# Altium footprint library CONV_RACM60-12SK_OF_PCB-T.PcbLib: 1 footprints
Each footprint in its own frame and in the unit in brackets; x right, y up, seen from the top. Pads: shape width x height; smd on the part's side, far side on the other; paste and mask are expansions set on the pad; w line width, h text height; cw(c..) or ccw(c..) is an arc to the next point about the centre after c.
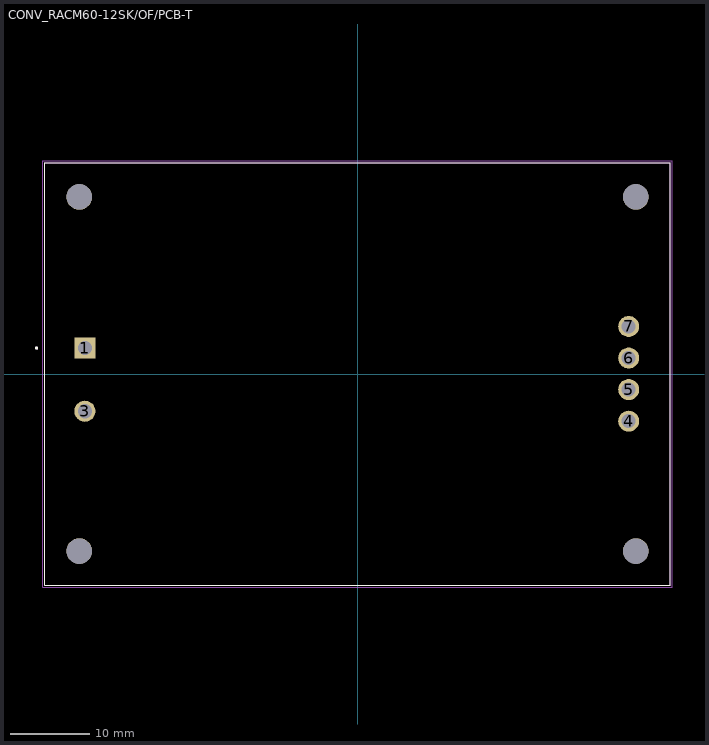
[diagram p0: the footprint, top view; thin cyan lines are the x and y axes]

## CONV_RACM60-12SK/OF/PCB-T [mm]
pads (10):
  rect 2.64x2.64 hole 1.76: 1(-34.2,3.25)
  round 2.64 hole 1.76: 3(-34.2,-4.67) 4(34,-5.92) 5(34,-1.96) 6(34,2) 7(34,5.96)
  round 3.2 hole 3.2 unplated: ""(-34.9,-22.2) ""(-34.9,22.2) ""(34.9,-22.2) ""(34.9,22.2)
Top Overlay:
  circle w0.2: c-40.25,3.25 r0.1
  lines w0.127: -39.2,-26.5 39.2,-26.5 39.2,26.5 -39.2,26.5 -39.2,-26.5
Mechanical 13:
  circle w0.2: c-40.25,3.25 r0.1
  lines w0.127: -39.2,-26.5 39.2,-26.5 39.2,26.5 -39.2,26.5 -39.2,-26.5
Mechanical 15:
  lines w0.05: -39.45,-26.75 39.45,-26.75 39.45,26.75 -39.45,26.75 -39.45,-26.75
3D body "RACM60-12SK-OF-PCB-T--3DModel-STEP-1.STEP": height 27.21, standoff -11.6, extent -39.284,-26.5 39.116,26.5